# Altium footprint library Freescale Microcontroller 32-Bit ARM.PcbLib: 7 footprints
Each footprint in its own frame and in the unit in brackets; x right, y up, seen from the top. Pads: shape width x height; smd on the part's side, far side on the other; paste and mask are expansions set on the pad; w line width, h text height; cw(c..) or ccw(c..) is an arc to the next point about the centre after c.
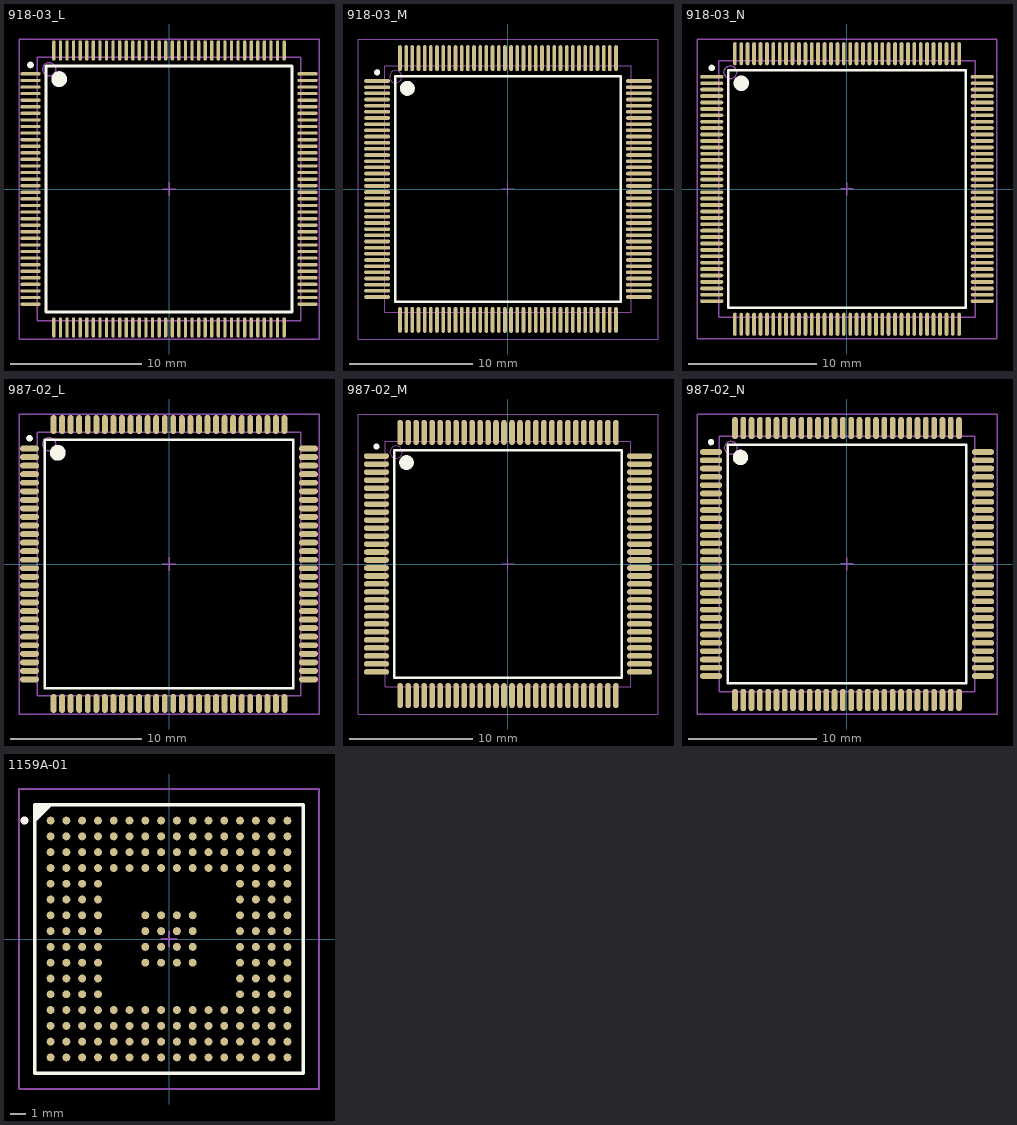
[diagram p0: the footprints below, top view; thin cyan lines are the x and y axes]

## 918-03_L [mm] "Thin QFP, 144-Leads, Body 20x20mm, Pitch 0.5mm, IPC High Density"
height 1.6
pads (144):
  oval 1.55x0.25 smd: 1(-10.525,8.75) 2(-10.525,8.25) 3(-10.525,7.75) 4(-10.525,7.25) 5(-10.525,6.75) 6(-10.525,6.25) 7(-10.525,5.75) 8(-10.525,5.25) 9(-10.525,4.75) 10(-10.525,4.25) 11(-10.525,3.75) 12(-10.525,3.25) 13(-10.525,2.75) 14(-10.525,2.25) 15(-10.525,1.75) 16(-10.525,1.25) 17(-10.525,0.75) 18(-10.525,0.25) 19(-10.525,-0.25) 20(-10.525,-0.75) 21(-10.525,-1.25) 22(-10.525,-1.75) 23(-10.525,-2.25) 24(-10.525,-2.75) 25(-10.525,-3.25) 26(-10.525,-3.75) 27(-10.525,-4.25) 28(-10.525,-4.75) 29(-10.525,-5.25) 30(-10.525,-5.75) 31(-10.525,-6.25) 32(-10.525,-6.75) 33(-10.525,-7.25) 34(-10.525,-7.75) 35(-10.525,-8.25) 36(-10.525,-8.75) 73(10.525,-8.75) 74(10.525,-8.25) 75(10.525,-7.75) 76(10.525,-7.25) 77(10.525,-6.75) 78(10.525,-6.25) 79(10.525,-5.75) 80(10.525,-5.25) 81(10.525,-4.75) 82(10.525,-4.25) 83(10.525,-3.75) 84(10.525,-3.25) 85(10.525,-2.75) 86(10.525,-2.25) 87(10.525,-1.75) 88(10.525,-1.25) 89(10.525,-0.75) 90(10.525,-0.25) 91(10.525,0.25) 92(10.525,0.75) 93(10.525,1.25) 94(10.525,1.75) 95(10.525,2.25) 96(10.525,2.75) 97(10.525,3.25) 98(10.525,3.75) 99(10.525,4.25) 100(10.525,4.75) 101(10.525,5.25) 102(10.525,5.75) 103(10.525,6.25) 104(10.525,6.75) 105(10.525,7.25) 106(10.525,7.75) 107(10.525,8.25) 108(10.525,8.75)
  oval 0.25x1.55 smd: 37(-8.75,-10.525) 38(-8.25,-10.525) 39(-7.75,-10.525) 40(-7.25,-10.525) 41(-6.75,-10.525) 42(-6.25,-10.525) 43(-5.75,-10.525) 44(-5.25,-10.525) 45(-4.75,-10.525) 46(-4.25,-10.525) 47(-3.75,-10.525) 48(-3.25,-10.525) 49(-2.75,-10.525) 50(-2.25,-10.525) 51(-1.75,-10.525) 52(-1.25,-10.525) 53(-0.75,-10.525) 54(-0.25,-10.525) 55(0.25,-10.525) 56(0.75,-10.525) 57(1.25,-10.525) 58(1.75,-10.525) 59(2.25,-10.525) 60(2.75,-10.525) 61(3.25,-10.525) 62(3.75,-10.525) 63(4.25,-10.525) 64(4.75,-10.525) 65(5.25,-10.525) 66(5.75,-10.525) 67(6.25,-10.525) 68(6.75,-10.525) 69(7.25,-10.525) 70(7.75,-10.525) 71(8.25,-10.525) 72(8.75,-10.525) 109(8.75,10.525) 110(8.25,10.525) 111(7.75,10.525) 112(7.25,10.525) 113(6.75,10.525) 114(6.25,10.525) 115(5.75,10.525) 116(5.25,10.525) 117(4.75,10.525) 118(4.25,10.525) 119(3.75,10.525) 120(3.25,10.525) 121(2.75,10.525) 122(2.25,10.525) 123(1.75,10.525) 124(1.25,10.525) 125(0.75,10.525) 126(0.25,10.525) 127(-0.25,10.525) 128(-0.75,10.525) 129(-1.25,10.525) 130(-1.75,10.525) 131(-2.25,10.525) 132(-2.75,10.525) 133(-3.25,10.525) 134(-3.75,10.525) 135(-4.25,10.525) 136(-4.75,10.525) 137(-5.25,10.525) 138(-5.75,10.525) 139(-6.25,10.525) 140(-6.75,10.525) 141(-7.25,10.525) 142(-7.75,10.525) 143(-8.25,10.525) 144(-8.75,10.525)
Top Overlay:
  circle w0.6: c-8.35,8.35 r0.3
  circle w0.25: c-10.525,9.425 r0.125
  lines w0.2: -9.35,-9.35 9.35,-9.35 9.35,9.35 -9.35,9.35 -9.35,-9.35
Mechanical 13:
  circle w0.1: c-9.1,9.1 r0.5
  lines w0.1: -10,-10 10,-10 10,10 -10,10 -10,-10
Mechanical 15:
  lines w0.1: -0.5,0 0.5,0 ; 0,-0.5 0,0.5 ; -11.4,-11.4 11.4,-11.4 11.4,11.4 -11.4,11.4 -11.4,-11.4
3D body: height 1.6, standoff 0, extent -10,-10 10,10

## 918-03_M [mm] "Thin QFP, 144-Leads, Body 20x20mm, Pitch 0.5mm, IPC Low Density"
height 1.6
pads (144):
  oval 2.1x0.3 smd: 1(-10.6,8.75) 2(-10.6,8.25) 3(-10.6,7.75) 4(-10.6,7.25) 5(-10.6,6.75) 6(-10.6,6.25) 7(-10.6,5.75) 8(-10.6,5.25) 9(-10.6,4.75) 10(-10.6,4.25) 11(-10.6,3.75) 12(-10.6,3.25) 13(-10.6,2.75) 14(-10.6,2.25) 15(-10.6,1.75) 16(-10.6,1.25) 17(-10.6,0.75) 18(-10.6,0.25) 19(-10.6,-0.25) 20(-10.6,-0.75) 21(-10.6,-1.25) 22(-10.6,-1.75) 23(-10.6,-2.25) 24(-10.6,-2.75) 25(-10.6,-3.25) 26(-10.6,-3.75) 27(-10.6,-4.25) 28(-10.6,-4.75) 29(-10.6,-5.25) 30(-10.6,-5.75) 31(-10.6,-6.25) 32(-10.6,-6.75) 33(-10.6,-7.25) 34(-10.6,-7.75) 35(-10.6,-8.25) 36(-10.6,-8.75) 73(10.6,-8.75) 74(10.6,-8.25) 75(10.6,-7.75) 76(10.6,-7.25) 77(10.6,-6.75) 78(10.6,-6.25) 79(10.6,-5.75) 80(10.6,-5.25) 81(10.6,-4.75) 82(10.6,-4.25) 83(10.6,-3.75) 84(10.6,-3.25) 85(10.6,-2.75) 86(10.6,-2.25) 87(10.6,-1.75) 88(10.6,-1.25) 89(10.6,-0.75) 90(10.6,-0.25) 91(10.6,0.25) 92(10.6,0.75) 93(10.6,1.25) 94(10.6,1.75) 95(10.6,2.25) 96(10.6,2.75) 97(10.6,3.25) 98(10.6,3.75) 99(10.6,4.25) 100(10.6,4.75) 101(10.6,5.25) 102(10.6,5.75) 103(10.6,6.25) 104(10.6,6.75) 105(10.6,7.25) 106(10.6,7.75) 107(10.6,8.25) 108(10.6,8.75)
  oval 0.3x2.1 smd: 37(-8.75,-10.6) 38(-8.25,-10.6) 39(-7.75,-10.6) 40(-7.25,-10.6) 41(-6.75,-10.6) 42(-6.25,-10.6) 43(-5.75,-10.6) 44(-5.25,-10.6) 45(-4.75,-10.6) 46(-4.25,-10.6) 47(-3.75,-10.6) 48(-3.25,-10.6) 49(-2.75,-10.6) 50(-2.25,-10.6) 51(-1.75,-10.6) 52(-1.25,-10.6) 53(-0.75,-10.6) 54(-0.25,-10.6) 55(0.25,-10.6) 56(0.75,-10.6) 57(1.25,-10.6) 58(1.75,-10.6) 59(2.25,-10.6) 60(2.75,-10.6) 61(3.25,-10.6) 62(3.75,-10.6) 63(4.25,-10.6) 64(4.75,-10.6) 65(5.25,-10.6) 66(5.75,-10.6) 67(6.25,-10.6) 68(6.75,-10.6) 69(7.25,-10.6) 70(7.75,-10.6) 71(8.25,-10.6) 72(8.75,-10.6) 109(8.75,10.6) 110(8.25,10.6) 111(7.75,10.6) 112(7.25,10.6) 113(6.75,10.6) 114(6.25,10.6) 115(5.75,10.6) 116(5.25,10.6) 117(4.75,10.6) 118(4.25,10.6) 119(3.75,10.6) 120(3.25,10.6) 121(2.75,10.6) 122(2.25,10.6) 123(1.75,10.6) 124(1.25,10.6) 125(0.75,10.6) 126(0.25,10.6) 127(-0.25,10.6) 128(-0.75,10.6) 129(-1.25,10.6) 130(-1.75,10.6) 131(-2.25,10.6) 132(-2.75,10.6) 133(-3.25,10.6) 134(-3.75,10.6) 135(-4.25,10.6) 136(-4.75,10.6) 137(-5.25,10.6) 138(-5.75,10.6) 139(-6.25,10.6) 140(-6.75,10.6) 141(-7.25,10.6) 142(-7.75,10.6) 143(-8.25,10.6) 144(-8.75,10.6)
Top Overlay:
  circle w0.6: c-8.15,8.15 r0.3
  circle w0.25: c-10.6,9.45 r0.125
  lines w0.2: -9.15,-9.15 9.15,-9.15 9.15,9.15 -9.15,9.15 -9.15,-9.15
Mechanical 13:
  circle w0.1: c-9.1,9.1 r0.5
  lines w0.1: -10,-10 10,-10 10,10 -10,10 -10,-10
Mechanical 15:
  lines w0.1: -0.5,0 0.5,0 ; 0,-0.5 0,0.5 ; -12.15,-12.15 12.15,-12.15 12.15,12.15 -12.15,12.15 -12.15,-12.15
3D body: height 1.6, standoff 0, extent -10,-10 10,10

## 918-03_N [mm] "Thin QFP, 144-Leads, Body 20x20mm, Pitch 0.5mm, IPC Medium Density"
height 1.6
pads (144):
  oval 1.8x0.3 smd: 1(-10.55,8.75) 2(-10.55,8.25) 3(-10.55,7.75) 4(-10.55,7.25) 5(-10.55,6.75) 6(-10.55,6.25) 7(-10.55,5.75) 8(-10.55,5.25) 9(-10.55,4.75) 10(-10.55,4.25) 11(-10.55,3.75) 12(-10.55,3.25) 13(-10.55,2.75) 14(-10.55,2.25) 15(-10.55,1.75) 16(-10.55,1.25) 17(-10.55,0.75) 18(-10.55,0.25) 19(-10.55,-0.25) 20(-10.55,-0.75) 21(-10.55,-1.25) 22(-10.55,-1.75) 23(-10.55,-2.25) 24(-10.55,-2.75) 25(-10.55,-3.25) 26(-10.55,-3.75) 27(-10.55,-4.25) 28(-10.55,-4.75) 29(-10.55,-5.25) 30(-10.55,-5.75) 31(-10.55,-6.25) 32(-10.55,-6.75) 33(-10.55,-7.25) 34(-10.55,-7.75) 35(-10.55,-8.25) 36(-10.55,-8.75) 73(10.55,-8.75) 74(10.55,-8.25) 75(10.55,-7.75) 76(10.55,-7.25) 77(10.55,-6.75) 78(10.55,-6.25) 79(10.55,-5.75) 80(10.55,-5.25) 81(10.55,-4.75) 82(10.55,-4.25) 83(10.55,-3.75) 84(10.55,-3.25) 85(10.55,-2.75) 86(10.55,-2.25) 87(10.55,-1.75) 88(10.55,-1.25) 89(10.55,-0.75) 90(10.55,-0.25) 91(10.55,0.25) 92(10.55,0.75) 93(10.55,1.25) 94(10.55,1.75) 95(10.55,2.25) 96(10.55,2.75) 97(10.55,3.25) 98(10.55,3.75) 99(10.55,4.25) 100(10.55,4.75) 101(10.55,5.25) 102(10.55,5.75) 103(10.55,6.25) 104(10.55,6.75) 105(10.55,7.25) 106(10.55,7.75) 107(10.55,8.25) 108(10.55,8.75)
  oval 0.3x1.8 smd: 37(-8.75,-10.55) 38(-8.25,-10.55) 39(-7.75,-10.55) 40(-7.25,-10.55) 41(-6.75,-10.55) 42(-6.25,-10.55) 43(-5.75,-10.55) 44(-5.25,-10.55) 45(-4.75,-10.55) 46(-4.25,-10.55) 47(-3.75,-10.55) 48(-3.25,-10.55) 49(-2.75,-10.55) 50(-2.25,-10.55) 51(-1.75,-10.55) 52(-1.25,-10.55) 53(-0.75,-10.55) 54(-0.25,-10.55) 55(0.25,-10.55) 56(0.75,-10.55) 57(1.25,-10.55) 58(1.75,-10.55) 59(2.25,-10.55) 60(2.75,-10.55) 61(3.25,-10.55) 62(3.75,-10.55) 63(4.25,-10.55) 64(4.75,-10.55) 65(5.25,-10.55) 66(5.75,-10.55) 67(6.25,-10.55) 68(6.75,-10.55) 69(7.25,-10.55) 70(7.75,-10.55) 71(8.25,-10.55) 72(8.75,-10.55) 109(8.75,10.55) 110(8.25,10.55) 111(7.75,10.55) 112(7.25,10.55) 113(6.75,10.55) 114(6.25,10.55) 115(5.75,10.55) 116(5.25,10.55) 117(4.75,10.55) 118(4.25,10.55) 119(3.75,10.55) 120(3.25,10.55) 121(2.75,10.55) 122(2.25,10.55) 123(1.75,10.55) 124(1.25,10.55) 125(0.75,10.55) 126(0.25,10.55) 127(-0.25,10.55) 128(-0.75,10.55) 129(-1.25,10.55) 130(-1.75,10.55) 131(-2.25,10.55) 132(-2.75,10.55) 133(-3.25,10.55) 134(-3.75,10.55) 135(-4.25,10.55) 136(-4.75,10.55) 137(-5.25,10.55) 138(-5.75,10.55) 139(-6.25,10.55) 140(-6.75,10.55) 141(-7.25,10.55) 142(-7.75,10.55) 143(-8.25,10.55) 144(-8.75,10.55)
Top Overlay:
  circle w0.25: c-10.55,9.45 r0.125
  circle w0.6: c-8.25,8.25 r0.3
  lines w0.2: -9.25,-9.25 -9.25,9.25 9.25,9.25 9.25,-9.25 -9.25,-9.25
Mechanical 13:
  circle w0.1: c-9.1,9.1 r0.5
  lines w0.1: -10,-10 -10,10 10,10 10,-10 -10,-10
Mechanical 15:
  lines w0.1: -0.5,0 0.5,0 ; 0,-0.5 0,0.5 ; -11.7,-11.7 -11.7,11.7 11.7,11.7 11.7,-11.7 -11.7,-11.7
3D body: height 1.6, standoff 0, extent -10,-10 10,10

## 987-02_L [mm] "Thin QFP, 112-Leads, Body 20 x 20mm, Pitch 0.65mm, IPC High Density"
height 1.6
pads (112):
  oval 1.45x0.45 smd: 1(-10.6,8.775) 2(-10.6,8.125) 3(-10.6,7.475) 4(-10.6,6.825) 5(-10.6,6.175) 6(-10.6,5.525) 7(-10.6,4.875) 8(-10.6,4.225) 9(-10.6,3.575) 10(-10.6,2.925) 11(-10.6,2.275) 12(-10.6,1.625) 13(-10.6,0.975) 14(-10.6,0.325) 15(-10.6,-0.325) 16(-10.6,-0.975) 17(-10.6,-1.625) 18(-10.6,-2.275) 19(-10.6,-2.925) 20(-10.6,-3.575) 21(-10.6,-4.225) 22(-10.6,-4.875) 23(-10.6,-5.525) 24(-10.6,-6.175) 25(-10.6,-6.825) 26(-10.6,-7.475) 27(-10.6,-8.125) 28(-10.6,-8.775) 57(10.6,-8.775) 58(10.6,-8.125) 59(10.6,-7.475) 60(10.6,-6.825) 61(10.6,-6.175) 62(10.6,-5.525) 63(10.6,-4.875) 64(10.6,-4.225) 65(10.6,-3.575) 66(10.6,-2.925) 67(10.6,-2.275) 68(10.6,-1.625) 69(10.6,-0.975) 70(10.6,-0.325) 71(10.6,0.325) 72(10.6,0.975) 73(10.6,1.625) 74(10.6,2.275) 75(10.6,2.925) 76(10.6,3.575) 77(10.6,4.225) 78(10.6,4.875) 79(10.6,5.525) 80(10.6,6.175) 81(10.6,6.825) 82(10.6,7.475) 83(10.6,8.125) 84(10.6,8.775)
  oval 0.45x1.45 smd: 29(-8.775,-10.6) 30(-8.125,-10.6) 31(-7.475,-10.6) 32(-6.825,-10.6) 33(-6.175,-10.6) 34(-5.525,-10.6) 35(-4.875,-10.6) 36(-4.225,-10.6) 37(-3.575,-10.6) 38(-2.925,-10.6) 39(-2.275,-10.6) 40(-1.625,-10.6) 41(-0.975,-10.6) 42(-0.325,-10.6) 43(0.325,-10.6) 44(0.975,-10.6) 45(1.625,-10.6) 46(2.275,-10.6) 47(2.925,-10.6) 48(3.575,-10.6) 49(4.225,-10.6) 50(4.875,-10.6) 51(5.525,-10.6) 52(6.175,-10.6) 53(6.825,-10.6) 54(7.475,-10.6) 55(8.125,-10.6) 56(8.775,-10.6) 85(8.775,10.6) 86(8.125,10.6) 87(7.475,10.6) 88(6.825,10.6) 89(6.175,10.6) 90(5.525,10.6) 91(4.875,10.6) 92(4.225,10.6) 93(3.575,10.6) 94(2.925,10.6) 95(2.275,10.6) 96(1.625,10.6) 97(0.975,10.6) 98(0.325,10.6) 99(-0.325,10.6) 100(-0.975,10.6) 101(-1.625,10.6) 102(-2.275,10.6) 103(-2.925,10.6) 104(-3.575,10.6) 105(-4.225,10.6) 106(-4.875,10.6) 107(-5.525,10.6) 108(-6.175,10.6) 109(-6.825,10.6) 110(-7.475,10.6) 111(-8.125,10.6) 112(-8.775,10.6)
Top Overlay:
  circle w0.6: c-8.45,8.45 r0.3
  circle w0.25: c-10.6,9.55 r0.125
  lines w0.2: -9.45,-9.45 9.45,-9.45 9.45,9.45 -9.45,9.45 -9.45,-9.45
Mechanical 13:
  circle w0.1: c-9.1,9.1 r0.5
  lines w0.1: -10,-10 10,-10 10,10 -10,10 -10,-10
Mechanical 15:
  lines w0.1: -0.5,0 0.5,0 ; 0,-0.5 0,0.5 ; -11.4,-11.4 11.4,-11.4 11.4,11.4 -11.4,11.4 -11.4,-11.4
3D body: height 1.6, standoff 0, extent -10,-10 10,10

## 987-02_M [mm] "Thin QFP, 112-Leads, Body 20 x 20mm, Pitch 0.65mm, IPC Low Density"
height 1.6
pads (112):
  oval 2.05x0.45 smd: 1(-10.7,8.775) 2(-10.7,8.125) 3(-10.7,7.475) 4(-10.7,6.825) 5(-10.7,6.175) 6(-10.7,5.525) 7(-10.7,4.875) 8(-10.7,4.225) 9(-10.7,3.575) 10(-10.7,2.925) 11(-10.7,2.275) 12(-10.7,1.625) 13(-10.7,0.975) 14(-10.7,0.325) 15(-10.7,-0.325) 16(-10.7,-0.975) 17(-10.7,-1.625) 18(-10.7,-2.275) 19(-10.7,-2.925) 20(-10.7,-3.575) 21(-10.7,-4.225) 22(-10.7,-4.875) 23(-10.7,-5.525) 24(-10.7,-6.175) 25(-10.7,-6.825) 26(-10.7,-7.475) 27(-10.7,-8.125) 28(-10.7,-8.775) 57(10.7,-8.775) 58(10.7,-8.125) 59(10.7,-7.475) 60(10.7,-6.825) 61(10.7,-6.175) 62(10.7,-5.525) 63(10.7,-4.875) 64(10.7,-4.225) 65(10.7,-3.575) 66(10.7,-2.925) 67(10.7,-2.275) 68(10.7,-1.625) 69(10.7,-0.975) 70(10.7,-0.325) 71(10.7,0.325) 72(10.7,0.975) 73(10.7,1.625) 74(10.7,2.275) 75(10.7,2.925) 76(10.7,3.575) 77(10.7,4.225) 78(10.7,4.875) 79(10.7,5.525) 80(10.7,6.175) 81(10.7,6.825) 82(10.7,7.475) 83(10.7,8.125) 84(10.7,8.775)
  oval 0.45x2.05 smd: 29(-8.775,-10.7) 30(-8.125,-10.7) 31(-7.475,-10.7) 32(-6.825,-10.7) 33(-6.175,-10.7) 34(-5.525,-10.7) 35(-4.875,-10.7) 36(-4.225,-10.7) 37(-3.575,-10.7) 38(-2.925,-10.7) 39(-2.275,-10.7) 40(-1.625,-10.7) 41(-0.975,-10.7) 42(-0.325,-10.7) 43(0.325,-10.7) 44(0.975,-10.7) 45(1.625,-10.7) 46(2.275,-10.7) 47(2.925,-10.7) 48(3.575,-10.7) 49(4.225,-10.7) 50(4.875,-10.7) 51(5.525,-10.7) 52(6.175,-10.7) 53(6.825,-10.7) 54(7.475,-10.7) 55(8.125,-10.7) 56(8.775,-10.7) 85(8.775,10.7) 86(8.125,10.7) 87(7.475,10.7) 88(6.825,10.7) 89(6.175,10.7) 90(5.525,10.7) 91(4.875,10.7) 92(4.225,10.7) 93(3.575,10.7) 94(2.925,10.7) 95(2.275,10.7) 96(1.625,10.7) 97(0.975,10.7) 98(0.325,10.7) 99(-0.325,10.7) 100(-0.975,10.7) 101(-1.625,10.7) 102(-2.275,10.7) 103(-2.925,10.7) 104(-3.575,10.7) 105(-4.225,10.7) 106(-4.875,10.7) 107(-5.525,10.7) 108(-6.175,10.7) 109(-6.825,10.7) 110(-7.475,10.7) 111(-8.125,10.7) 112(-8.775,10.7)
Top Overlay:
  circle w0.6: c-8.25,8.25 r0.3
  circle w0.25: c-10.7,9.55 r0.125
  lines w0.2: -9.25,-9.25 9.25,-9.25 9.25,9.25 -9.25,9.25 -9.25,-9.25
Mechanical 13:
  circle w0.1: c-9.1,9.1 r0.5
  lines w0.1: -10,-10 10,-10 10,10 -10,10 -10,-10
Mechanical 15:
  lines w0.1: -0.5,0 0.5,0 ; 0,-0.5 0,0.5 ; -12.2,-12.2 12.2,-12.2 12.2,12.2 -12.2,12.2 -12.2,-12.2
3D body: height 1.6, standoff 0, extent -10,-10 10,10

## 987-02_N [mm] "Thin QFP, 112-Leads, Body 20 x 20mm, Pitch 0.65mm, IPC Medium Density"
height 1.6
pads (112):
  oval 1.75x0.45 smd: 1(-10.65,8.775) 2(-10.65,8.125) 3(-10.65,7.475) 4(-10.65,6.825) 5(-10.65,6.175) 6(-10.65,5.525) 7(-10.65,4.875) 8(-10.65,4.225) 9(-10.65,3.575) 10(-10.65,2.925) 11(-10.65,2.275) 12(-10.65,1.625) 13(-10.65,0.975) 14(-10.65,0.325) 15(-10.65,-0.325) 16(-10.65,-0.975) 17(-10.65,-1.625) 18(-10.65,-2.275) 19(-10.65,-2.925) 20(-10.65,-3.575) 21(-10.65,-4.225) 22(-10.65,-4.875) 23(-10.65,-5.525) 24(-10.65,-6.175) 25(-10.65,-6.825) 26(-10.65,-7.475) 27(-10.65,-8.125) 28(-10.65,-8.775) 57(10.65,-8.775) 58(10.65,-8.125) 59(10.65,-7.475) 60(10.65,-6.825) 61(10.65,-6.175) 62(10.65,-5.525) 63(10.65,-4.875) 64(10.65,-4.225) 65(10.65,-3.575) 66(10.65,-2.925) 67(10.65,-2.275) 68(10.65,-1.625) 69(10.65,-0.975) 70(10.65,-0.325) 71(10.65,0.325) 72(10.65,0.975) 73(10.65,1.625) 74(10.65,2.275) 75(10.65,2.925) 76(10.65,3.575) 77(10.65,4.225) 78(10.65,4.875) 79(10.65,5.525) 80(10.65,6.175) 81(10.65,6.825) 82(10.65,7.475) 83(10.65,8.125) 84(10.65,8.775)
  oval 0.45x1.75 smd: 29(-8.775,-10.65) 30(-8.125,-10.65) 31(-7.475,-10.65) 32(-6.825,-10.65) 33(-6.175,-10.65) 34(-5.525,-10.65) 35(-4.875,-10.65) 36(-4.225,-10.65) 37(-3.575,-10.65) 38(-2.925,-10.65) 39(-2.275,-10.65) 40(-1.625,-10.65) 41(-0.975,-10.65) 42(-0.325,-10.65) 43(0.325,-10.65) 44(0.975,-10.65) 45(1.625,-10.65) 46(2.275,-10.65) 47(2.925,-10.65) 48(3.575,-10.65) 49(4.225,-10.65) 50(4.875,-10.65) 51(5.525,-10.65) 52(6.175,-10.65) 53(6.825,-10.65) 54(7.475,-10.65) 55(8.125,-10.65) 56(8.775,-10.65) 85(8.775,10.65) 86(8.125,10.65) 87(7.475,10.65) 88(6.825,10.65) 89(6.175,10.65) 90(5.525,10.65) 91(4.875,10.65) 92(4.225,10.65) 93(3.575,10.65) 94(2.925,10.65) 95(2.275,10.65) 96(1.625,10.65) 97(0.975,10.65) 98(0.325,10.65) 99(-0.325,10.65) 100(-0.975,10.65) 101(-1.625,10.65) 102(-2.275,10.65) 103(-2.925,10.65) 104(-3.575,10.65) 105(-4.225,10.65) 106(-4.875,10.65) 107(-5.525,10.65) 108(-6.175,10.65) 109(-6.825,10.65) 110(-7.475,10.65) 111(-8.125,10.65) 112(-8.775,10.65)
Top Overlay:
  circle w0.25: c-10.65,9.55 r0.125
  circle w0.6: c-8.35,8.35 r0.3
  lines w0.2: -9.35,-9.35 -9.35,9.35 9.35,9.35 9.35,-9.35 -9.35,-9.35
Mechanical 13:
  circle w0.1: c-9.1,9.1 r0.5
  lines w0.1: -10,-10 -10,10 10,10 10,-10 -10,-10
Mechanical 15:
  lines w0.1: -0.5,0 0.5,0 ; 0,-0.5 0,0.5 ; -11.75,-11.75 -11.75,11.75 11.75,11.75 11.75,-11.75 -11.75,-11.75
3D body: height 1.6, standoff 0, extent -10,-10 10,10

## 1159A-01 [mm] "BGA, 208-Leads, Body 17x17mm, Pitch 1mm"
height 2
pads (208):
  round 0.5 smd: A1(-7.5,7.5) A2(-6.5,7.5) A3(-5.5,7.5) A4(-4.5,7.5) A5(-3.5,7.5) A6(-2.5,7.5) A7(-1.5,7.5) A8(-0.5,7.5) A9(0.5,7.5) A10(1.5,7.5) A11(2.5,7.5) A12(3.5,7.5) A13(4.5,7.5) A14(5.5,7.5) A15(6.5,7.5) A16(7.5,7.5) B1(-7.5,6.5) B2(-6.5,6.5) B3(-5.5,6.5) B4(-4.5,6.5) B5(-3.5,6.5) B6(-2.5,6.5) B7(-1.5,6.5) B8(-0.5,6.5) B9(0.5,6.5) B10(1.5,6.5) B11(2.5,6.5) B12(3.5,6.5) B13(4.5,6.5) B14(5.5,6.5) B15(6.5,6.5) B16(7.5,6.5) C1(-7.5,5.5) C2(-6.5,5.5) C3(-5.5,5.5) C4(-4.5,5.5) C5(-3.5,5.5) C6(-2.5,5.5) C7(-1.5,5.5) C8(-0.5,5.5) C9(0.5,5.5) C10(1.5,5.5) C11(2.5,5.5) C12(3.5,5.5) C13(4.5,5.5) C14(5.5,5.5) C15(6.5,5.5) C16(7.5,5.5) D1(-7.5,4.5) D2(-6.5,4.5) D3(-5.5,4.5) D4(-4.5,4.5) D5(-3.5,4.5) D6(-2.5,4.5) D7(-1.5,4.5) D8(-0.5,4.5) D9(0.5,4.5) D10(1.5,4.5) D11(2.5,4.5) D12(3.5,4.5) D13(4.5,4.5) D14(5.5,4.5) D15(6.5,4.5) D16(7.5,4.5) E1(-7.5,3.5) E2(-6.5,3.5) E3(-5.5,3.5) E4(-4.5,3.5) E13(4.5,3.5) E14(5.5,3.5) E15(6.5,3.5) E16(7.5,3.5) F1(-7.5,2.5) F2(-6.5,2.5) F3(-5.5,2.5) F4(-4.5,2.5) F13(4.5,2.5) F14(5.5,2.5) F15(6.5,2.5) F16(7.5,2.5) G1(-7.5,1.5) G2(-6.5,1.5) G3(-5.5,1.5) G4(-4.5,1.5) G7(-1.5,1.5) G8(-0.5,1.5) G9(0.5,1.5) G10(1.5,1.5) G13(4.5,1.5) G14(5.5,1.5) G15(6.5,1.5) G16(7.5,1.5) H1(-7.5,0.5) H2(-6.5,0.5) H3(-5.5,0.5) H4(-4.5,0.5) H7(-1.5,0.5) H8(-0.5,0.5) H9(0.5,0.5) H10(1.5,0.5) H13(4.5,0.5) H14(5.5,0.5) H15(6.5,0.5) H16(7.5,0.5) J1(-7.5,-0.5) J2(-6.5,-0.5) J3(-5.5,-0.5) J4(-4.5,-0.5) J7(-1.5,-0.5) J8(-0.5,-0.5) J9(0.5,-0.5) J10(1.5,-0.5) J13(4.5,-0.5) J14(5.5,-0.5) J15(6.5,-0.5) J16(7.5,-0.5) K1(-7.5,-1.5) K2(-6.5,-1.5) K3(-5.5,-1.5) K4(-4.5,-1.5) K7(-1.5,-1.5) K8(-0.5,-1.5) K9(0.5,-1.5) K10(1.5,-1.5) K13(4.5,-1.5) K14(5.5,-1.5) K15(6.5,-1.5) K16(7.5,-1.5) L1(-7.5,-2.5) L2(-6.5,-2.5) L3(-5.5,-2.5) L4(-4.5,-2.5) L13(4.5,-2.5) L14(5.5,-2.5) L15(6.5,-2.5) L16(7.5,-2.5) M1(-7.5,-3.5) M2(-6.5,-3.5) M3(-5.5,-3.5) M4(-4.5,-3.5) M13(4.5,-3.5) M14(5.5,-3.5) M15(6.5,-3.5) M16(7.5,-3.5) N1(-7.5,-4.5) N2(-6.5,-4.5) N3(-5.5,-4.5) N4(-4.5,-4.5) N5(-3.5,-4.5) N6(-2.5,-4.5) N7(-1.5,-4.5) N8(-0.5,-4.5) N9(0.5,-4.5) N10(1.5,-4.5) N11(2.5,-4.5) N12(3.5,-4.5) N13(4.5,-4.5) N14(5.5,-4.5) N15(6.5,-4.5) N16(7.5,-4.5) P1(-7.5,-5.5) P2(-6.5,-5.5) P3(-5.5,-5.5) P4(-4.5,-5.5) P5(-3.5,-5.5) P6(-2.5,-5.5) P7(-1.5,-5.5) P8(-0.5,-5.5) P9(0.5,-5.5) P10(1.5,-5.5) P11(2.5,-5.5) P12(3.5,-5.5) P13(4.5,-5.5) P14(5.5,-5.5) P15(6.5,-5.5) P16(7.5,-5.5) R1(-7.5,-6.5) R2(-6.5,-6.5) R3(-5.5,-6.5) R4(-4.5,-6.5) R5(-3.5,-6.5) R6(-2.5,-6.5) R7(-1.5,-6.5) R8(-0.5,-6.5) R9(0.5,-6.5) R10(1.5,-6.5) R11(2.5,-6.5) R12(3.5,-6.5) R13(4.5,-6.5) R14(5.5,-6.5) R15(6.5,-6.5) R16(7.5,-6.5) T1(-7.5,-7.5) T2(-6.5,-7.5) T3(-5.5,-7.5) T4(-4.5,-7.5) T5(-3.5,-7.5) T6(-2.5,-7.5) T7(-1.5,-7.5) T8(-0.5,-7.5) T9(0.5,-7.5) T10(1.5,-7.5) T11(2.5,-7.5) T12(3.5,-7.5) T13(4.5,-7.5) T14(5.5,-7.5) T15(6.5,-7.5) T16(7.5,-7.5)
Top Overlay:
  circle w0.25: c-9.15,7.5 r0.125
  region: -7.5,8.5 -8.5,7.5 -8.5,8.5
  lines w0.2: -8.5,7.5 -7.5,8.5 ; -8.5,-8.5 -8.5,8.5 8.5,8.5 8.5,-8.5 -8.5,-8.5
Mechanical 13:
  lines w0.1: -8.5,-8.5 -8.5,8.5 8.5,8.5 8.5,-8.5 -8.5,-8.5
Mechanical 15:
  lines w0.1: -0.5,0 0.5,0 ; 0,-0.5 0,0.5 ; -9.5,-9.5 -9.5,9.5 9.5,9.5 9.5,-9.5 -9.5,-9.5
3D body: height 2, standoff 0, extent -8.5,-8.5 8.5,8.5